# Altium footprint library QFN48.PcbLib: 1 footprints
Each footprint in its own frame and in the unit in brackets; x right, y up, seen from the top. Pads: shape width x height; smd on the part's side, far side on the other; paste and mask are expansions set on the pad; w line width, h text height; cw(c..) or ccw(c..) is an arc to the next point about the centre after c.
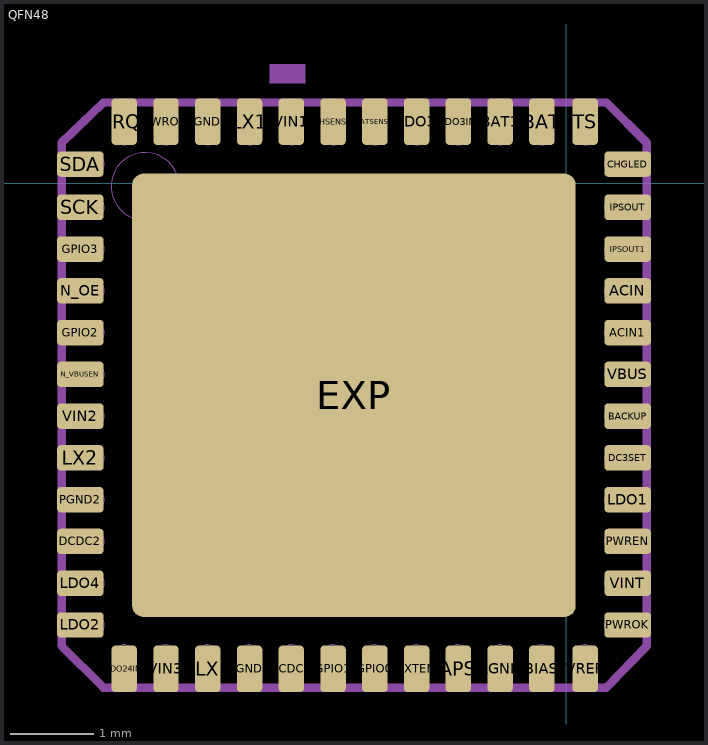
[diagram p0: the footprint, top view; thin cyan lines are the x and y axes]

## QFN48 [mil]
pads (49):
  rrect30% 22x12 smd: ACIN(29,-50.79) ACIN1(29,-70.47) BACKUP(29,-109.84) CHGLED(29,9) DC3SET(29,-129.53) DCDC2(-228.94,-168.9) GPIO2(-228.94,-70.47) GPIO3(-228.94,-31.1) IPSOUT(29,-11.42) IPSOUT1(29,-31.1) LDO1(29,-149.21) LDO2(-228.94,-208.27) LDO4(-228.94,-188.58) LX2(-228.94,-129.53) N_OE(-228.94,-50.79) N_VBUSEN(-228.94,-90.16) PGND2(-228.94,-149.21) PWREN(29,-168.9) PWROK(29,-208.27) SCK(-228.94,-11.42) SDA(-228.94,9) VBUS(29,-90.16) VIN2(-228.94,-109.84) VINT(29,-188.58)
  rrect30% 12x22 smd: AGND(-31.1,-228.94) APS(-50.79,-228.94) BAT(-11.42,29) BAT1(-31.1,29) BATSENSE(-90.16,29) BIAS(-11.42,-228.94) CHSENSE(-109.84,29) DCDC3(-129.53,-228.94) EXTEN(-70.47,-228.94) GPIO0(-90.16,-228.94) GPIO1(-109.84,-228.94) IRQ(-208.27,29) LDO3(-70.47,29) LDO3IN(-50.79,29) LDO24IN(-208.27,-228.94) LX(-168.9,-228.94) LX1(-149.21,29) PGND1(-168.9,29) PGND3(-149.21,-228.94) PWRON(-188.58,29) TS(9,29) VIN1(-129.53,29) VIN3(-188.58,-228.94) VREF(9,-228.94)
  rrect5% 209x209 smd: EXP(-100,-100)
Top Paste:
  drawing of 241 lines, arcs and shapes, not listed
Top Solder:
  drawing of 241 lines, arcs and shapes, not listed
Mechanical 2:
  text ">AXP202" at -218.11,58 h77.5
Mechanical 16:
  circle w0: c-222.64,9 r5
  circle w0: c-222.64,-11.42 r5
  circle w0: c-222.64,-31.1 r5
  circle w0: c-222.64,-50.79 r5
  circle w0: c-222.64,-70.47 r5
  circle w0: c-222.64,-90.16 r5
  circle w0: c-222.64,-109.84 r5
  circle w0: c-222.64,-129.53 r5
  circle w0: c-222.64,-149.21 r5
  circle w0: c-222.64,-168.9 r5
  circle w0: c-222.64,-188.58 r5
  circle w0: c-222.64,-208.27 r5
  circle w0: c-208.27,-222.64 r5
  circle w0: c-188.58,-222.64 r5
  circle w0: c-168.9,-222.64 r5
  circle w0: c-149.21,-222.64 r5
  circle w0: c-129.53,-222.64 r5
  circle w0: c-109.84,-222.64 r5
  circle w0: c-90.16,-222.64 r5
  circle w0: c-70.47,-222.64 r5
  circle w0: c-50.79,-222.64 r5
  circle w0: c-31.1,-222.64 r5
  circle w0: c-11.42,-222.64 r5
  circle w0: c9,-222.64 r5
  circle w0: c23,-208.27 r5
  circle w0: c23,-188.58 r5
  circle w0: c23,-168.9 r5
  circle w0: c23,-149.21 r5
  circle w0: c23,-129.53 r5
  circle w0: c23,-109.84 r5
  circle w0: c23,-90.16 r5
  circle w0: c23,-70.47 r5
  circle w0: c23,-50.79 r5
  circle w0: c23,-31.1 r5
  circle w0: c23,-11.42 r5
  circle w0: c23,9 r5
  circle w0: c9,23 r5
  circle w0: c-11.42,23 r5
  circle w0: c-31.1,23 r5
  circle w0: c-50.79,23 r5
  circle w0: c-70.47,23 r5
  circle w0: c-90.16,23 r5
  circle w0: c-109.84,23 r5
  circle w0: c-129.53,23 r5
  circle w0: c-149.21,23 r5
  circle w0: c-168.9,23 r5
  circle w0: c-188.58,23 r5
  circle w0: c-208.27,23 r5
  circle w0: c-198.43,-1.57 r16
  region: -239.9,12.93 -239.9,3.87 -222.7,3.87 -222.7,12.93
  region: -239.76,-6.89 -239.76,-15.94 -222.83,-15.94 -222.83,-6.89
  region: -239.76,-26.57 -239.76,-35.63 -222.83,-35.63 -222.83,-26.57
  region: -239.76,-46.26 -239.76,-55.31 -222.83,-55.31 -222.83,-46.26
  region: -239.76,-65.94 -239.76,-75 -222.83,-75 -222.83,-65.94
  region: -239.76,-85.63 -239.76,-94.68 -222.83,-94.68 -222.83,-85.63
  region: -239.76,-105.32 -239.76,-114.37 -222.83,-114.37 -222.83,-105.32
  region: -239.76,-125 -239.76,-134.06 -222.83,-134.06 -222.83,-125
  region: -239.76,-144.69 -239.76,-153.74 -222.83,-153.74 -222.83,-144.69
  region: -239.76,-164.37 -239.76,-173.43 -222.83,-173.43 -222.83,-164.37
  region: -239.76,-184.06 -239.76,-193.11 -222.83,-193.11 -222.83,-184.06
  region: -239.76,-203.74 -239.76,-212.8 -222.83,-212.8 -222.83,-203.74
  rectangle: -212.8,-239.76 -203.74,-222.83
  rectangle: -193.11,-239.76 -184.06,-222.83
  rectangle: -173.43,-239.76 -164.37,-222.83
  rectangle: -153.74,-239.76 -144.69,-222.83
  rectangle: -134.06,-239.76 -125,-222.83
  rectangle: -114.37,-239.76 -105.31,-222.83
  rectangle: -94.69,-239.76 -85.63,-222.83
  rectangle: -75,-239.76 -65.94,-222.83
  rectangle: -55.31,-239.76 -46.26,-222.83
  rectangle: -35.63,-239.76 -26.57,-222.83
  rectangle: -15.94,-239.76 -6.89,-222.83
  rectangle: 4,-239.76 13,-222.83
  region: 39.96,-212.77 39.96,-203.77 23.04,-203.77 23.04,-212.77
  region: 39.96,-193.08 39.96,-184.08 23.04,-184.08 23.04,-193.08
  region: 39.96,-173.4 39.96,-164.4 23.04,-164.4 23.04,-173.4
  region: 39.96,-153.71 39.96,-144.71 23.04,-144.71 23.04,-153.71
  region: 39.96,-134.03 39.96,-125.03 23.04,-125.03 23.04,-134.03
  region: 39.96,-114.34 39.96,-105.34 23.04,-105.34 23.04,-114.34
  region: 39.96,-94.66 39.96,-85.66 23.04,-85.66 23.04,-94.66
  region: 39.96,-74.97 39.96,-65.97 23.04,-65.97 23.04,-74.97
  region: 39.96,-55.29 39.96,-46.29 23.04,-46.29 23.04,-55.29
  region: 39.96,-35.6 39.96,-26.6 23.04,-26.6 23.04,-35.6
  region: 39.96,-15.92 39.96,-6.92 23.04,-6.92 23.04,-15.92
  region: 40.1,3.9 40.1,12.9 22.9,12.9 22.9,3.9
  region: 13,40 4,40 4,23 13,23
  region: -6.89,40 -15.94,40 -15.94,23 -6.89,23
  region: -26.57,40 -35.63,40 -35.63,23 -26.57,23
  region: -46.26,40 -55.31,40 -55.31,23 -46.26,23
  region: -65.94,40 -75,40 -75,23 -65.94,23
  region: -85.63,40 -94.69,40 -94.69,23 -85.63,23
  region: -105.31,40 -114.37,40 -114.37,23 -105.31,23
  region: -125,40 -134.06,40 -134.06,23 -125,23
  region: -139.8,56.03 -139.8,46.97 -122.8,46.97 -122.8,56.03
  region: -164.37,40 -173.43,40 -173.43,23 -164.37,23
  region: -184.06,40 -193.11,40 -193.11,23 -184.06,23
  region: -203.74,40 -212.8,40 -212.8,23 -203.74,23
  lines w4: -237.8,-218.11 -218.11,-237.8 19,-237.8 38,-218.11 38,19 19,38 -218.11,38 -237.8,19 -237.8,-218.11